# Altium footprint library QFN-28(3.0X6.0).PcbLib: 1 footprints
Each footprint in its own frame and in the unit in brackets; x right, y up, seen from the top. Pads: shape width x height; smd on the part's side, far side on the other; paste and mask are expansions set on the pad; w line width, h text height; cw(c..) or ccw(c..) is an arc to the next point about the centre after c.
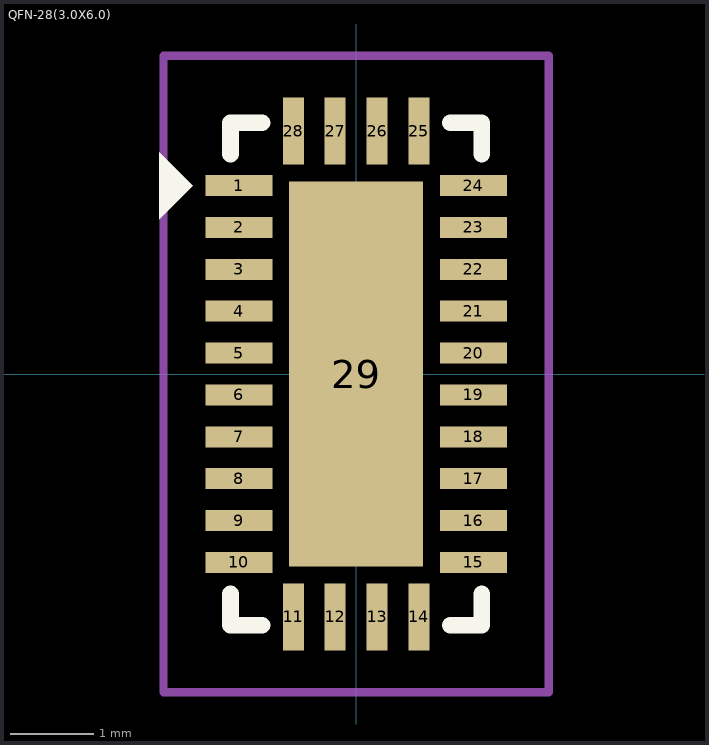
[diagram p0: the footprint, top view; thin cyan lines are the x and y axes]

## QFN-28(3.0X6.0) [mm]
pads (29):
  rect 0.8x0.25 smd paste+0: 1(-1.4,2.25) 2(-1.4,1.75) 3(-1.4,1.25) 4(-1.4,0.75) 5(-1.4,0.25) 6(-1.4,-0.25) 7(-1.4,-0.75) 8(-1.4,-1.25) 9(-1.4,-1.75) 10(-1.4,-2.25) 15(1.4,-2.25) 16(1.4,-1.75) 17(1.4,-1.25) 18(1.4,-0.75) 19(1.4,-0.25) 20(1.4,0.25) 21(1.4,0.75) 22(1.4,1.25) 23(1.4,1.75) 24(1.4,2.25)
  rect 0.25x0.8 smd paste+0: 11(-0.75,-2.9) 12(-0.25,-2.9) 13(0.25,-2.9) 14(0.75,-2.9) 25(0.75,2.9) 26(0.25,2.9) 27(-0.25,2.9) 28(-0.75,2.9)
  rect 1.6x4.6 smd: 29(0,0)
Top Overlay:
  region: -2.35,1.85 -2.35,2.65 -1.95,2.25
  lines w0.2: -1.5,-2.625 -1.5,-3 -1.125,-3 ; -1.5,2.625 -1.5,3 -1.125,3 ; 1.125,-3 1.5,-3 1.5,-2.625 ; 1.125,3 1.5,3 1.5,2.625
Top Courtyard:
  lines w0.1: -2.3,-3.8 2.3,-3.8 2.3,3.8 -2.3,3.8 -2.3,-3.8
3D body "UDE_28_ADI.step": height 0.81, standoff 0, extent -1.499,-2.997 1.499,2.997